# Altium footprint library QUTMS_LEDLibrary.PcbLib: 8 footprints
Each footprint in its own frame and in the unit in brackets; x right, y up, seen from the top. Pads: shape width x height; smd on the part's side, far side on the other; paste and mask are expansions set on the pad; w line width, h text height; cw(c..) or ccw(c..) is an arc to the next point about the centre after c.
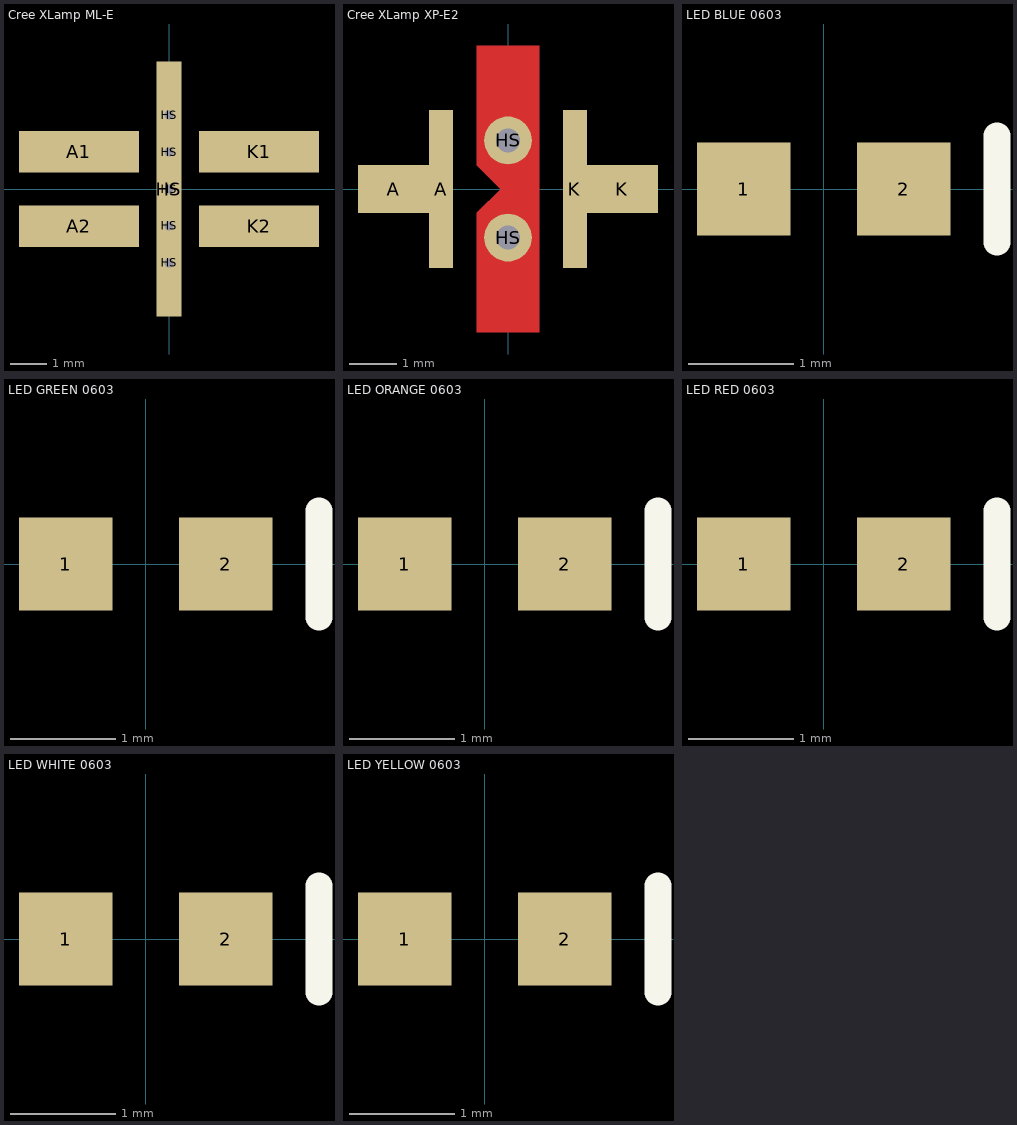
[diagram p0: the footprints below, top view; thin cyan lines are the x and y axes]

## Cree XLamp ML-E [mil]
pads (10):
  rect 129.92x45.28 smd: A1(-97.44,40.35) A2(-97.44,-40.35) K1(97.44,40.35) K2(97.44,-40.35)
  rect 27.56x275.59 smd: HS(0,0)
  round 20 hole 10: HS(0,-80) HS(0,-40) HS(0,0) HS(0,40) HS(0,80)
3D body "xlamp_ml-x.stp": height 45, standoff -2.24, extent -67.71,-69.12 68.12,68.68

## Cree XLamp XP-E2 [mm]
pads (6):
  rect 1.5x1 smd: A(-2.388,0) K(2.388,0)
  rect 0.5x3.3 smd: A(-1.4,0) K(1.4,0)
  round 1 hole 0.5: HS(0,-1.016) HS(0,1.016)
Top Layer:
  region: -0.65,3 0.65,3 0.65,-3 -0.65,-3 -0.65,-0.5 -0.15,0 -0.65,0.5
3D body "XLamp_XPG2_3D_STEP.stp": height 2.31, standoff 0.06, extent -1.725,-1.725 1.725,1.725

## LED BLUE 0603 [mil]
pads (2):
  rect 35x35 smd: 1(-30,0) 2(30,0)
Top Overlay:
  lines w10: 65,-20 65,20
3D body: height 7, standoff 0, extent -40,-20 40,20
3D body: height 30, standoff 1, extent -30,-17.5 30,17.5

## LED GREEN 0603 [mil]
pads (2):
  rect 35x35 smd: 1(-30,0) 2(30,0)
Top Overlay:
  lines w10: 65,-20 65,20
3D body: height 30, standoff 1, extent -30,-17.5 30,17.5
3D body: height 7, standoff 0, extent -40,-20 40,20

## LED ORANGE 0603 [mil]
pads (2):
  rect 35x35 smd: 1(-30,0) 2(30,0)
Top Overlay:
  lines w10: 65,-20 65,20
3D body: height 30, standoff 1, extent -30,-17.5 30,17.5
3D body: height 7, standoff 0, extent -40,-20 40,20

## LED RED 0603 [mil]
pads (2):
  rect 35x35 smd: 1(-30,0) 2(30,0)
Top Overlay:
  lines w10: 65,-20 65,20
3D body: height 30, standoff 1, extent -30,-17.5 30,17.5
3D body: height 7, standoff 0, extent -40,-20 40,20

## LED WHITE 0603 [mil]
pads (2):
  rect 35x35 smd: 1(-30,0) 2(30,0)
Top Overlay:
  lines w10: 65,-20 65,20
3D body: height 7, standoff 0, extent -40,-20 40,20
3D body: height 30, standoff 1, extent -30,-17.5 30,17.5

## LED YELLOW 0603 [mil]
pads (2):
  rect 35x35 smd: 1(-30,0) 2(30,0)
Top Overlay:
  lines w10: 65,-20 65,20
3D body: height 7, standoff 0, extent -40,-20 40,20
3D body: height 30, standoff 1, extent -30,-17.5 30,17.5